# Altium footprint library AirBee.PcbLib: 9 footprints
Each footprint in its own frame and in the unit in brackets; x right, y up, seen from the top. Pads: shape width x height; smd on the part's side, far side on the other; paste and mask are expansions set on the pad; w line width, h text height; cw(c..) or ccw(c..) is an arc to the next point about the centre after c.
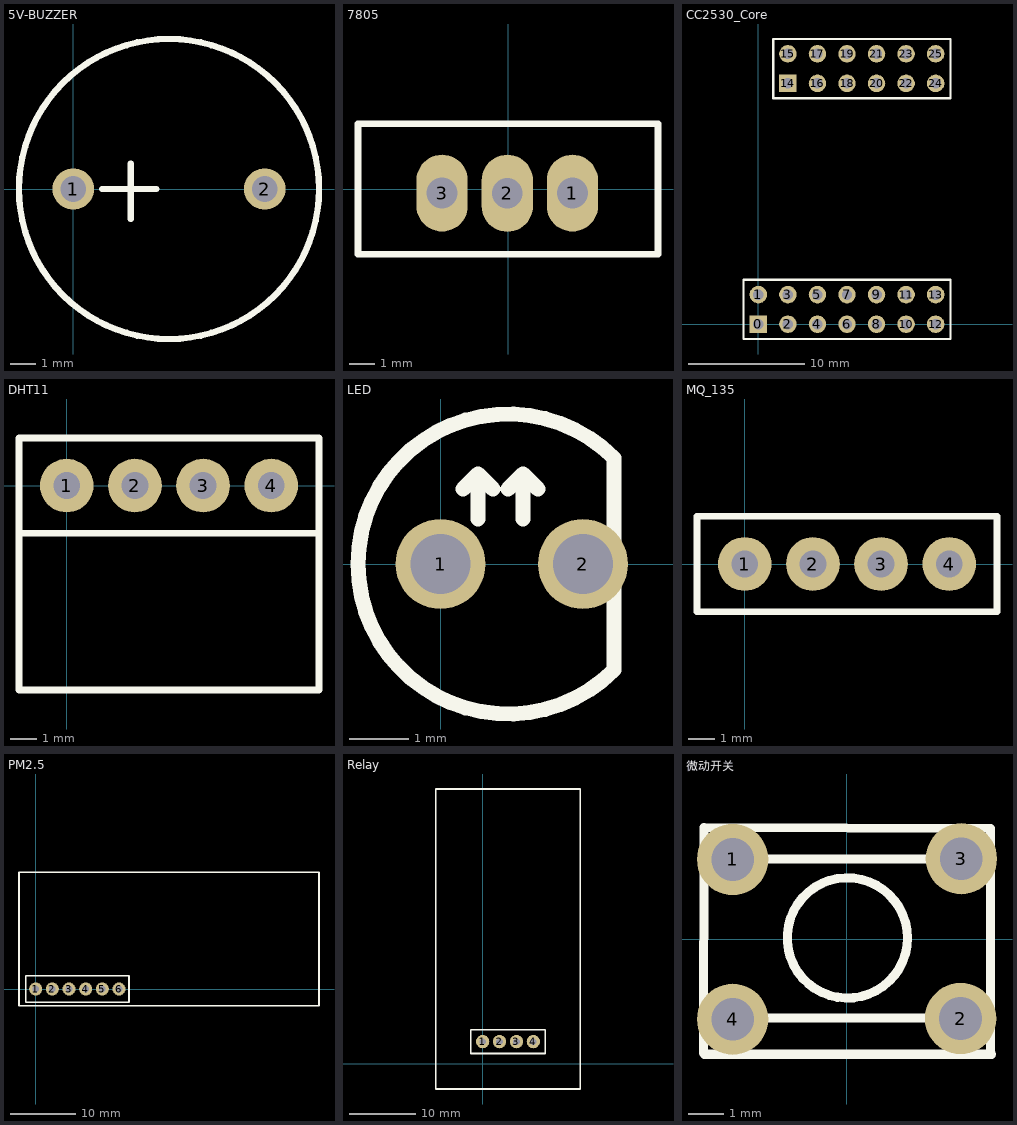
[diagram p0: the footprints below, top view; thin cyan lines are the x and y axes]

## 5V-BUZZER [mil]
pads (2):
  round 65 hole 40: 1(0,0) 2(300,0)
Top Overlay:
  circle w10: c150,0 r235
  lines w10: 45,0 130,0 ; 90,-47 90,40

## 7805 [mm]
pads (3):
  oval 2x3 hole 1.2: 1(2.51,-0.159) 2(-0.026,-0.165) 3(-2.57,-0.159)
Top Overlay:
  lines w0.254: -5.842,-2.54 -5.842,2.54 5.842,2.54 5.842,-2.54 -5.842,-2.54

## CC2530_Core [mm] "Connector; Header; 7x2 Position"
pads (26):
  rect 1.5x1.5 hole 0.9: 0(0,0) 14(2.54,20.701)
  round 1.5 hole 0.9: 1(0,2.54) 2(2.54,0) 3(2.54,2.54) 4(5.08,0) 5(5.08,2.54) 6(7.62,0) 7(7.62,2.54) 8(10.16,0) 9(10.16,2.54) 10(12.7,0) 11(12.7,2.54) 12(15.24,0) 13(15.24,2.54) 15(2.54,23.241) 16(5.08,20.701) 17(5.08,23.241) 18(7.62,20.701) 19(7.62,23.241) 20(10.16,20.701) 21(10.16,23.241) 22(12.7,20.701) 23(12.7,23.241) 24(15.24,20.701) 25(15.24,23.241)
Top Overlay:
  lines w0.2: -1.27,-1.27 -1.27,3.81 16.51,3.81 16.51,-1.27 -1.27,-1.27 ; 1.27,19.431 16.51,19.431 16.51,24.511 1.27,24.511 1.27,19.431

## DHT11 [mm]
pads (4):
  round 2 hole 1: 1(0,0) 2(2.54,0) 3(5.08,0) 4(7.62,0)
Top Overlay:
  lines w0.254: -1.778,-1.778 9.398,-1.778 ; -1.778,-1.778 -1.778,1.778 9.398,1.778 9.398,-1.778 ; -1.778,-1.778 -1.778,-7.62 9.398,-7.62 9.398,-1.778

## LED [mil]
pads (2):
  round 60 hole 40: 1(0,0) 2(95,0)
Top Overlay:
  lines w10: 15,50 25,60 ; 25,30 25,60 ; 35,50 25,60 ; 45,50 55,60 ; 55,30 55,60 ; 65,50 55,60 ; 115.71,-70.71 cw(c45,0) 115.71,70.71 115.71,-70.71

## MQ_135 [mm]
pads (4):
  round 2 hole 1: 1(0,0) 2(2.54,0) 3(5.08,0) 4(7.62,0)
Top Overlay:
  lines w0.254: -1.778,-1.778 -1.778,1.778 9.398,1.778 9.398,-1.778 -1.778,-1.778

## PM2.5 [mm]
pads (6):
  round 2 hole 1: 1(0,0) 2(2.54,0) 3(5.08,0) 4(7.62,0) 5(10.16,0) 6(12.7,0)
Top Overlay:
  lines w0.254: -2.54,-2.54 19.05,-2.54 43.18,-2.54 43.18,17.78 -2.54,17.78 -2.54,-2.54 ; -1.524,-2.032 14.224,-2.032 14.224,2.032 -1.524,2.032 -1.524,-2.032

## Relay [mm]
pads (4):
  round 2 hole 1: 1(0,3.302) 2(2.54,3.302) 3(5.08,3.302) 4(7.62,3.302)
Top Overlay:
  lines w0.254: -7.04,-3.81 14.66,-3.81 14.66,41.19 -7.04,41.19 -7.04,-3.81 ; -1.778,1.524 -1.778,5.08 9.398,5.08 9.398,1.524 -1.778,1.524

## 微动开关 [mm]
pads (4):
  round 2 hole 1.2: 1(-3.205,2.23) 2(3.185,-2.23) 3(3.205,2.25) 4(-3.205,-2.25)
Top Layer:
  lines w0.381: -3.567,2.496 -3.205,2.496 ; -3.567,2.496 -3.205,2.496 ; -3.567,2.496 -3.205,2.496 ; -3.567,2.496 -3.205,2.496 ; -3.237,2.166 -3.189,2.214 ; -3.237,2.166 -3.189,2.214 ; -3.237,2.166 -3.189,2.214 ; -3.237,2.166 -3.189,2.214 ; -3.237,2.166 -3.189,2.214 ; -3.205,2.496 -3.161,2.496 ; -3.205,2.496 -3.161,2.496 ; -3.205,2.496 -3.161,2.496 ; -3.205,2.496 -3.161,2.496
Top Overlay:
  circle w0.254: c0.009,0.03 r1.686
  lines w0.254: -4.025,-3.19 -4.015,3.124 4.025,3.092 4.023,-3.232 ; -3.997,-3.23 4.045,-3.23 ; -3.126,2.243 3.478,2.243 ; -3.042,-2.21 3.435,-2.21